# Altium footprint library LED.PcbLib: 53 footprints (part 4 of 4)
Each footprint in its own frame and in the unit in brackets; x right, y up, seen from the top. Pads: shape width x height; smd on the part's side, far side on the other; paste and mask are expansions set on the pad; w line width, h text height; cw(c..) or ccw(c..) is an arc to the next point about the centre after c.
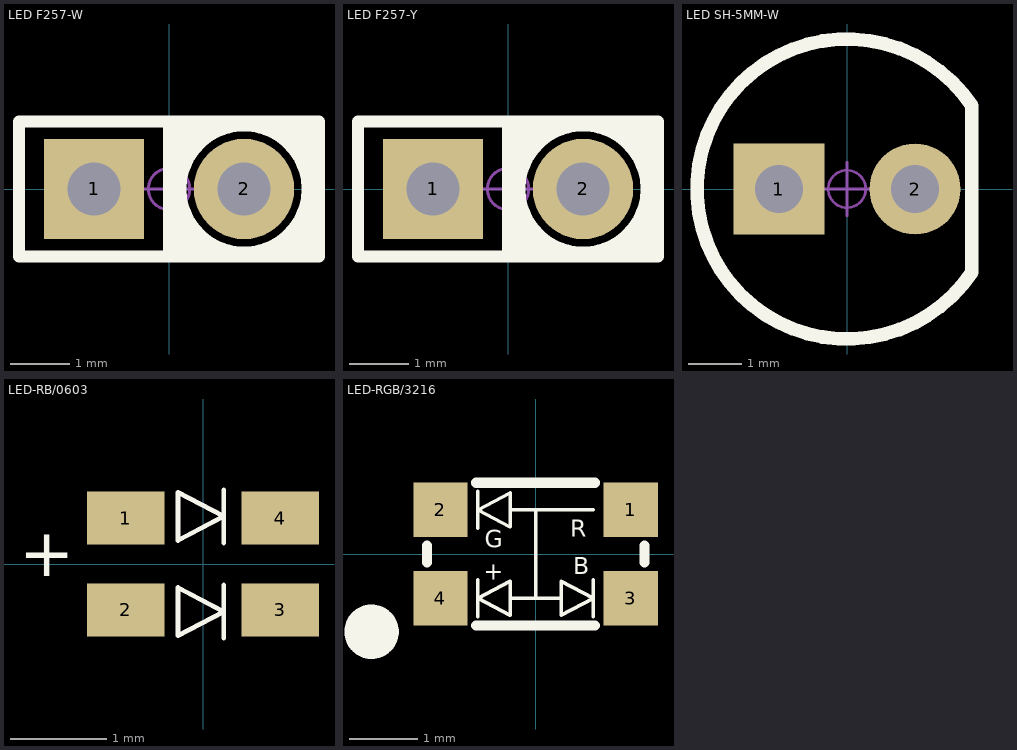
[diagram p3: the footprints below, top view; thin cyan lines are the x and y axes]

## LED F257-W [mm] "透明色2mm*5mm*7mm(长*宽*高)"
pads (2):
  rect 1.7x1.7 hole 0.9: 1(-1.27,0)
  round 1.7 hole 0.9: 2(1.27,0)
Top Overlay:
  circle w0.203: c1.27,0 r1.078
  lines w0.203: 0,-1.143 0,1.143 ; 0,-0.889 0.254,-1.143 ; 0,-0.635 0.508,-1.143 ; 0,-0.381 0.635,-1.016 0.762,-1.143 ; 0,0.381 0.762,1.143 ; 0,0.635 0.508,1.143 ; 0,0.762 0,0.889 0.254,1.143 ; 0.127,-0.635 0.127,0.508 ; 1.778,-1.143 2.54,-0.381 ; 1.905,1.143 1.778,1.143 2.54,0.381 ; 2.032,-1.143 2.54,-0.635 ; 2.032,1.143 2.54,0.635 ; 2.286,-1.143 2.54,-0.889 ; 2.286,1.143 2.54,0.889 ; 2.413,-0.508 2.413,0.508 ; -2.54,-1.143 -2.54,1.143 2.54,1.143 2.54,-1.143 -2.54,-1.143
Mechanical 15:
  circle w0.05: c0,0 r0.35
  lines w0.05: -0.5,0 0.5,0 ; 0,-0.5 0,0.5
3D body "LED F257透明罩.STEP": height 7.05, standoff 0.05, extent -2.5,-1 2.5,1
3D body "LED F234-W.STEP": height 3.01, standoff -3.45, extent -1.52,-0.838 1.52,0.838

## LED F257-Y [mm] "黄色2mm*5mm*7mm(长*宽*高)"
pads (2):
  rect 1.7x1.7 hole 0.9: 1(-1.27,0)
  round 1.7 hole 0.9: 2(1.27,0)
Top Overlay:
  circle w0.203: c1.27,0 r1.078
  lines w0.203: 0,-1.143 0,1.143 ; 0,-0.889 0.254,-1.143 ; 0,-0.635 0.508,-1.143 ; 0,-0.381 0.635,-1.016 0.762,-1.143 ; 0,0.381 0.762,1.143 ; 0,0.635 0.508,1.143 ; 0,0.762 0,0.889 0.254,1.143 ; 0.127,-0.635 0.127,0.508 ; 1.778,-1.143 2.54,-0.381 ; 1.905,1.143 1.778,1.143 2.54,0.381 ; 2.032,-1.143 2.54,-0.635 ; 2.032,1.143 2.54,0.635 ; 2.286,-1.143 2.54,-0.889 ; 2.286,1.143 2.54,0.889 ; 2.413,-0.508 2.413,0.508 ; -2.54,-1.143 -2.54,1.143 2.54,1.143 2.54,-1.143 -2.54,-1.143
Mechanical 15:
  circle w0.05: c0,0 r0.35
  lines w0.05: -0.5,0 0.5,0 ; 0,-0.5 0,0.5
3D body "LED F234-Y.STEP": height 3.01, standoff -3.45, extent -1.52,-0.838 1.52,0.838
3D body "LED F257透明罩.STEP": height 7.05, standoff 0.05, extent -2.5,-1 2.5,1

## LED SH-5MM-W [mm] "白色5mm草帽，直插LED"
height 10.16
pads (2):
  rect 1.7x1.7 hole 0.9: 1(-1.27,0)
  round 1.7 hole 0.9: 2(1.27,0)
Top Overlay:
  lines w0.254: 2.33,-1.553 cw(c0,0) 2.33,1.553 2.33,-1.553
Mechanical 15:
  circle w0.05: c0,0 r0.35
  lines w0.05: -0.5,0 0.5,0 ; 0,-0.5 0,0.5
3D body "LED-4.8mm玻璃罩.STEP": height 4.85, standoff 0.05, extent -2.75,-2.75 2.41,2.75
3D body "LED-4.8mm.STEP": height 3.42, standoff -3.45, extent -1.584,-0.745 1.535,0.755

## LED-RB/0603 [mm]
pads (4):
  rect 0.8x0.55 smd: 1(-0.8,0.475) 2(-0.8,-0.475) 3(0.8,-0.475) 4(0.8,0.475)
Top Overlay:
  lines w0.05: 0.215,-0.768 0.215,-0.218 ; 0.215,0.218 0.215,0.768 ; -0.26,-0.743 0.215,-0.493 -0.26,-0.243 -0.26,-0.743 ; -0.26,0.243 -0.26,0.743 0.215,0.493 -0.26,0.243
  text "+" at -1.905,-0.127 h0.5
3D body "User Library-Wurth Elektronik WL-SMCW 1206 (3216) LED Base (Separate Lens).STEP": height 0.62, standoff 0, extent -1.6,-0.8 1.6,0.8

## LED-RGB/3216 [mm]
pads (4):
  rect 0.8x0.8 smd: 1(1.4,0.65) 2(-1.4,0.65) 3(1.4,-0.65) 4(-1.4,-0.65)
Top Overlay:
  circle w0.4: c-2.413,-1.143 r0.2
  lines w0.05: -0.85,-0.925 -0.85,-0.375 ; -0.85,0.375 -0.85,0.925 ; -0.375,-0.65 0.375,-0.65 ; -0.375,0.65 0.85,0.65 ; 0,-0.65 0,0.65 ; 0.85,-0.925 0.85,-0.375 ; -0.85,-0.65 -0.375,-0.9 -0.375,-0.4 -0.85,-0.65 ; -0.85,0.65 -0.375,0.9 -0.375,0.4 -0.85,0.65 ; 0.375,-0.9 0.85,-0.65 0.375,-0.4 0.375,-0.9
  lines w0.15: -1.6,-0.125 -1.6,0.125 ; -0.875,-1.05 0.875,-1.05 ; -0.875,1.05 0.875,1.05 ; 1.6,-0.125 1.6,0.125
  text "R" at 0.508,0.254 h0.25
  text "G" at -0.75,0.1 h0.25
  text "B" at 0.55,-0.3 h0.25
  text "+" at -0.762,-0.381 h0.25
3D body "User Library-Wurth Elektronik WL-SMCW 1206 (3216) LED Base (Separate Lens).STEP": height 0.62, standoff 0, extent -1.6,-0.8 1.6,0.8